# Altium schematic symbol library Crystal.SchLib: 5 symbols
Pins are listed as number, name and electrical type; pins without a type are passive.

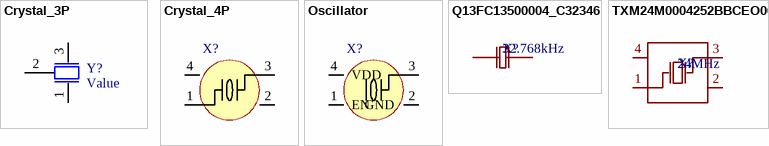
[diagram p0: symbols Crystal_3P to TXM24M0004252BBCEO00T]

## Crystal_3P
designator Y?, comment Value
村田三脚贴片晶振
footprint Crystal_3P (村田三脚贴片晶振)
pins: 1, 2, 3

## Crystal_4P
designator X?, comment XYDBPCNANF-12MHZ  (value not drawn)
四脚无源晶振; Manufacturer: TAITIEN(泰艺电子); Add into BOM: yes; Name: -; Symbol: XYDBPCNANF-12MHZ; Device: XYDBPCNANF-12MHZ; Convert to PCB: yes; LCSC Part Name: 12MHz 12pF ±10ppm -20~+70℃; Supplier Part: C521567; Manufacturer Part: XYDBPCNANF-12MHZ; Supplier Footprint: SMD2520-4P; JLCPCB Part Class: 扩展库; Datasheet: https://atta.szlcsc.com/upload/public/pdf/source/20200427/C521567_8D8DDB0F2E066B5BAD7A5878EBE465E2.pdf; Supplier: LCSC; Crystal Type: -; Value: -; Frequency Tolerance: -; Frequency Stability: -; Load Capacitance: -; Operating Temperature: -
footprint CARSTAL_4P_2520 (CARSTAL_2520)
pins: 1, 2 GND, 3, 4 GND

## Oscillator
designator X?, comment XYDBPCNANF-12MHZ  (value not drawn)
四脚有源晶振; Manufacturer: TAITIEN(泰艺电子); Add into BOM: yes; Name: -; Symbol: XYDBPCNANF-12MHZ; Device: XYDBPCNANF-12MHZ; Convert to PCB: yes; LCSC Part Name: 12MHz 12pF ±10ppm -20~+70℃; Supplier Part: C521567; Manufacturer Part: XYDBPCNANF-12MHZ; Supplier Footprint: SMD2520-4P; JLCPCB Part Class: 扩展库; Datasheet: https://atta.szlcsc.com/upload/public/pdf/source/20200427/C521567_8D8DDB0F2E066B5BAD7A5878EBE465E2.pdf; Supplier: LCSC; Crystal Type: -; Value: -; Frequency Tolerance: -; Frequency Stability: -; Load Capacitance: -; Operating Temperature: -
footprint OSC-SMD_4P-L2.0-W1.6-BL
footprint CARSTAL_4P_2520 (CARSTAL_2520)
pins: 1 EN, 2 GND, 3, 4 VDD

## Q13FC13500004_C32346
designator X?, comment 32.768kHz
晶振类型:贴片晶振;频率:32.768kHz;常温频差:±20ppm;负载电容:12.5pF;; Manufacturer: EPSON(爱普生); Manufacturer Part: Q13FC13500004; SEEX_AUTHOR: ref42; SEEX_COMPONENT_ID: C32346; Equivalent Series Resistance(ESR): 70kΩ; Load Capacitance: 12.5pF; Normal temperature Frequency Tolerance: ?0ppm; SEEX_PROJECT_URL: https://github.com/ref42/seex; Footprint: FC-135R_L3.2-W1.5; Datasheet: https://item.szlcsc.com/datasheet/Q13FC13500004/33310.html; JLCPCB Part Class: Basic Part; LCSC Part Name: 32.768kHz ?0ppm 12.5pF; Operating Temperature: -40℃~+85℃; Supplier: LCSC; Supplier Footprint: SMD3215-2P; Supplier Part: C32346; Type: 贴片晶振; Value: 32.768kHz
footprint FC-135R_L3.2-W1.5 (PCB footprint)
pins: 1, 2

## TXM24M0004252BBCEO00T
designator X?, comment 24MHz
晶振类型:贴片晶振;频率:24MHz;常温频差:±10ppm;负载电容:8pF;频率稳定度:±30ppm;; Manufacturer: YJX(雅晶鑫); Manufacturer Part: TXM24M0004252BBCEO00T; SEEX_AUTHOR: ref42; SEEX_COMPONENT_ID: C284163; Equivalent Series Resistance(ESR): 55Ω; Frequency Stability: ?0ppm; Load Capacitance: 8pF; SEEX_PROJECT_URL: https://github.com/ref42/seex; Footprint: CRYSTAL-SMD_4P-L2.5-W2.0-BL; Datasheet: https://item.szlcsc.com/datasheet/TXM24M0004252BBCEO00T/270212.html; JLCPCB Part Class: Extended Part; LCSC Part Name: 24MHz ?0ppm 8pF; Normal temperature Frequency Tolerance: ?0ppm; Operating Temperature: -40℃~+85℃; Supplier: LCSC; Supplier Footprint: SMD2520-4P; Supplier Part: C284163; Type: 贴片晶振; Value: 24MHz
footprint CRYSTAL-SMD_4P-L2.5-W2.0-BL (PCB footprint)
pins: 1 OSC1, 2, 3 OSC2, 4